# Altium footprint library MOLEX_504050-0491.PcbLib: 1 footprints
Each footprint in its own frame and in the unit in brackets; x right, y up, seen from the top. Pads: shape width x height; smd on the part's side, far side on the other; paste and mask are expansions set on the pad; w line width, h text height; cw(c..) or ccw(c..) is an arc to the next point about the centre after c.
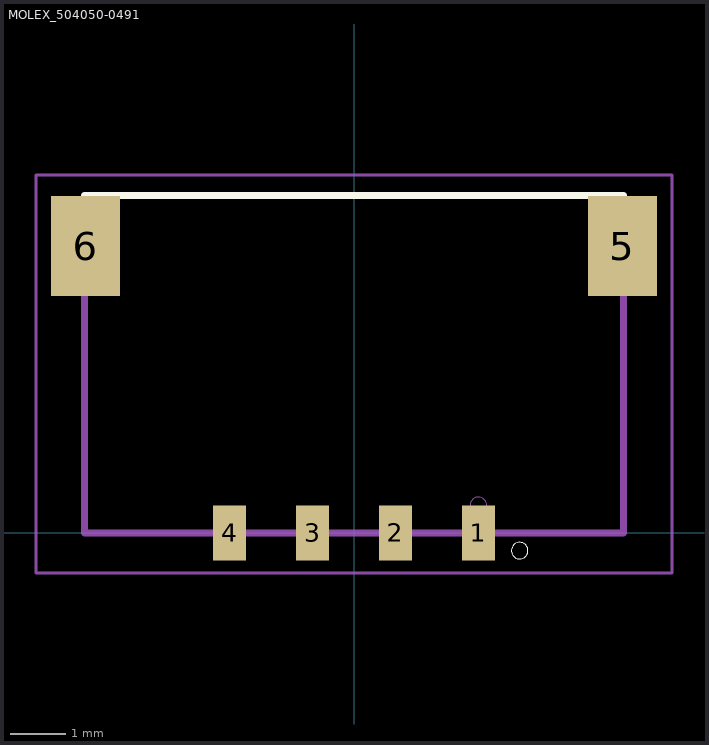
[diagram p0: the footprint, top view; thin cyan lines are the x and y axes]

## MOLEX_504050-0491 [mm]
pads (6):
  rect 0.6x1 smd: 1(2.25,0) 2(0.75,0) 3(-0.75,0) 4(-2.25,0)
  rect 1.25x1.8 smd: 5(4.855,5.19) 6(-4.855,5.19)
Top Overlay:
  circle w0: c2.997,-0.32 r0.15
  lines w0.127: -4.875,6.1 4.875,6.1
Mechanical 4:
  circle w0: c2.25,0.5 r0.15
  circle w0: c2.25,0.5 r0.15
  lines w0.127: -4.875,0 4.875,0 ; -4.875,0 -4.875,6.1 -4.875,0 ; -4.875,0 4.875,0 ; 4.875,0 4.875,6.1 4.875,0
Mechanical 16:
  lines w0.05: -5.75,-0.725 5.75,-0.725 5.75,6.475 -5.75,6.475 -5.75,-0.725
3D body "504050-0491--3DModel-STEP-1.STEP": height 2.15, standoff 0, extent -5.275,-0.34 5.275,6.1